# Altium footprint library CON-5.08.PcbLib: 13 footprints
Each footprint in its own frame and in the unit in brackets; x right, y up, seen from the top. Pads: shape width x height; smd on the part's side, far side on the other; paste and mask are expansions set on the pad; w line width, h text height; cw(c..) or ccw(c..) is an arc to the next point about the centre after c.
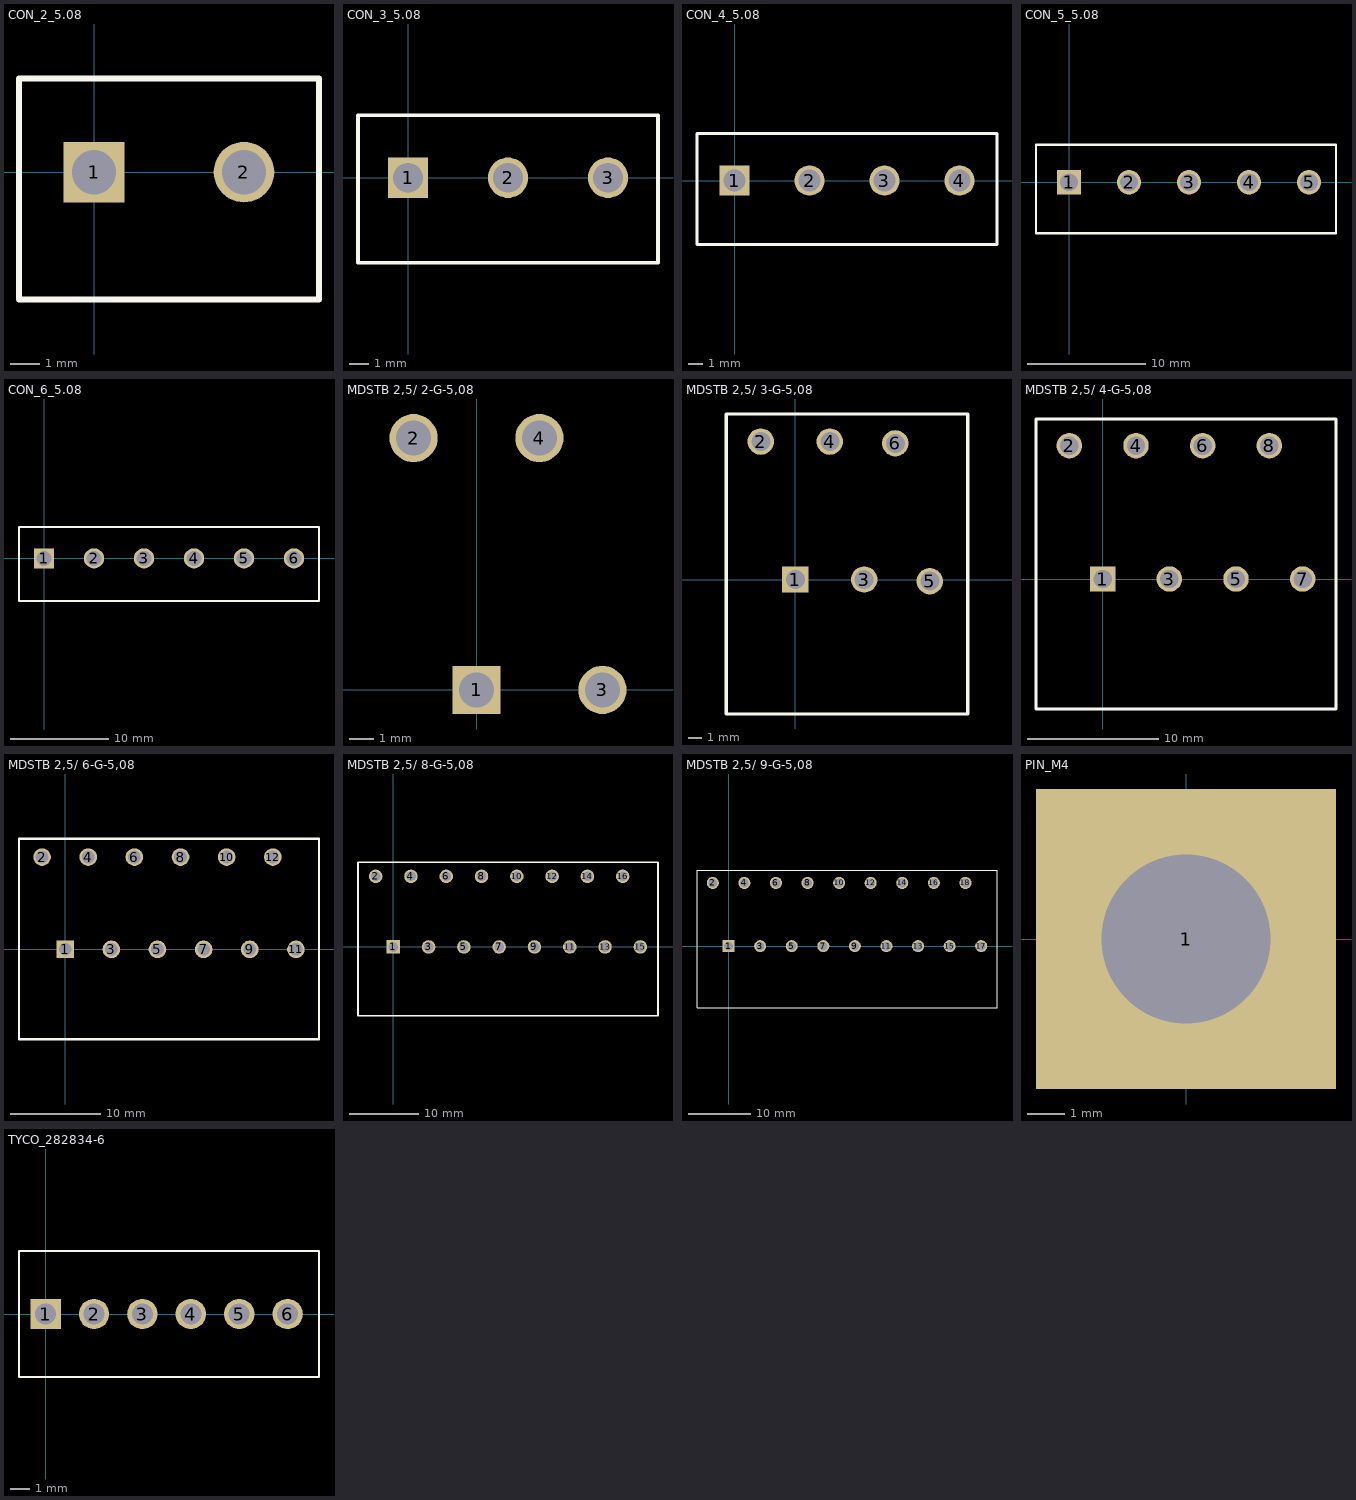
[diagram p0: the footprints below, top view; thin cyan lines are the x and y axes]

## CON_2_5.08 [mm]
pads (2):
  rect 2.05x2.05 hole 1.5: 1(0,0)
  round 2.05 hole 1.5: 2(5.08,0)
Top Overlay:
  lines w0.2: -2.54,-4.318 -2.54,3.175 7.62,3.175 7.62,-4.318 -2.54,-4.318
3D body: height 10, standoff -3.05, extent -2.54,-4.327 7.62,3.173

## CON_3_5.08 [mm]
pads (3):
  rect 2.05x2.05 hole 1.5: 1(0,0)
  round 2.05 hole 1.5: 2(5.08,0) 3(10.16,0)
Top Overlay:
  lines w0.2: -2.54,-4.318 -2.54,3.175 12.7,3.175 12.7,-4.318 -2.54,-4.318
3D body: height 10, standoff -3.05, extent -2.54,-4.327 12.7,3.173

## CON_4_5.08 [mm]
pads (4):
  rect 2.05x2.05 hole 1.5: 1(0,0)
  round 2.05 hole 1.5: 2(5.08,0) 3(10.16,0) 4(15.24,0)
Top Overlay:
  lines w0.2: -2.54,-4.318 -2.54,3.175 7.366,3.175 17.78,3.175 17.78,-4.318 7.366,-4.318 -2.54,-4.318
3D body: height 10, standoff -3.05, extent 7.62,-4.318 17.78,3.182
3D body: height 10, standoff -3.05, extent -2.54,-4.318 7.62,3.182

## CON_5_5.08 [mm]
pads (5):
  rect 2.05x2.05 hole 1.5: 1(0,0)
  round 2.05 hole 1.5: 2(5.08,0) 3(10.16,0) 4(15.24,0) 5(20.32,0)
Top Overlay:
  lines w0.2: -2.794,-4.318 -2.794,3.175 7.366,3.175 22.606,3.175 22.606,-4.318 7.366,-4.318 -2.794,-4.318
3D body: height 10, standoff -3.05, extent 7.62,-4.327 22.86,3.173
3D body: height 10, standoff -3.05, extent -2.54,-4.327 7.62,3.173

## CON_6_5.08 [mm]
pads (6):
  rect 2.05x2.05 hole 1.5: 1(0,0)
  round 2.05 hole 1.5: 2(5.08,0) 3(10.16,0) 4(15.24,0) 5(20.32,0) 6(25.4,0)
Top Overlay:
  lines w0.2: -2.54,-4.318 12.7,-4.318 27.94,-4.318 27.94,3.175 12.7,3.175 -2.54,3.175 -2.54,-4.318
3D body: height 10, standoff -3.05, extent 12.7,-4.327 27.94,3.173
3D body: height 10, standoff -3.05, extent -2.54,-4.327 12.7,3.173

## MDSTB 2,5/ 2-G-5,08 [mm]
pads (4):
  rect 1.94x1.94 hole 1.4: 1(0,0)
  round 1.94 hole 1.4: 2(-2.54,10.16) 3(5.08,0) 4(2.54,10.16)
3D body: height 23.98, standoff -3.02, extent -5.08,-9.907 7.62,12.193

## MDSTB 2,5/ 3-G-5,08 [mm]
pads (6):
  rect 1.94x1.94 hole 1.4: 1(0,0)
  round 1.94 hole 1.4: 2(-2.54,10.16) 3(5.08,0) 4(2.54,10.16) 5(9.906,-0.127) 6(7.366,10.033)
Top Overlay:
  lines w0.254: -5.08,-9.906 -5.08,12.192 12.7,12.192 12.7,-9.906 -5.08,-9.906
3D body: height 23.88, standoff -3.12, extent -5.08,-9.907 12.7,12.193

## MDSTB 2,5/ 4-G-5,08 [mm]
pads (8):
  rect 1.94x1.94 hole 1.4: 1(0,0)
  round 1.94 hole 1.4: 2(-2.54,10.16) 3(5.08,0) 4(2.54,10.16) 5(10.16,0) 6(7.62,10.16) 7(15.24,0) 8(12.7,10.16)
Top Overlay:
  lines w0.254: -5.08,-9.906 17.78,-9.906 17.78,12.192 -5.08,12.192 -5.08,-9.906
3D body: height 23.98, standoff -3.02, extent -5.08,-9.907 17.78,12.193

## MDSTB 2,5/ 6-G-5,08 [mm]
pads (12):
  rect 1.94x1.94 hole 1.4: 1(0,0)
  round 1.94 hole 1.4: 2(-2.54,10.16) 3(5.08,0) 4(2.54,10.16) 5(10.16,0) 6(7.62,10.16) 7(15.24,0) 8(12.7,10.16) 9(20.32,0) 10(17.78,10.16) 11(25.4,0) 12(22.86,10.16)
Top Overlay:
  lines w0.254: -5.08,-9.906 -5.08,12.192 27.94,12.192 27.94,-9.906 -5.08,-9.906
3D body: height 23.88, standoff -3.12, extent -5.08,-9.907 27.94,12.193

## MDSTB 2,5/ 8-G-5,08 [mm]
pads (16):
  rect 1.94x1.94 hole 1.4: 1(0,0)
  round 1.94 hole 1.4: 2(-2.54,10.16) 3(5.08,0) 4(2.54,10.16) 5(10.16,0) 6(7.62,10.16) 7(15.24,0) 8(12.7,10.16) 9(20.32,0) 10(17.78,10.16) 11(25.4,0) 12(22.86,10.16) 13(30.48,0) 14(27.94,10.16) 15(35.56,0) 16(33.02,10.16)
Top Overlay:
  lines w0.254: -5.08,-9.906 38.1,-9.906 38.1,12.192 -5.08,12.192 -5.08,-9.906
3D body: height 24.28, standoff -2.72, extent -5.08,-9.907 38.1,12.193

## MDSTB 2,5/ 9-G-5,08 [mm]
pads (18):
  rect 1.94x1.94 hole 1.4: 1(0,0)
  round 1.94 hole 1.4: 2(-2.54,10.16) 3(5.08,0) 4(2.54,10.16) 5(10.16,0) 6(7.62,10.16) 7(15.24,0) 8(12.7,10.16) 9(20.32,0) 10(17.78,10.16) 11(25.4,0) 12(22.86,10.16) 13(30.48,0) 14(27.94,10.16) 15(35.56,0) 16(33.02,10.16) 17(40.64,0) 18(38.1,10.16)
Top Overlay:
  lines w0.1: -5.08,-9.906 43.18,-9.906 43.18,12.192 -5.08,12.192 -5.08,-9.906
3D body: height 24.28, standoff -2.72, extent -5.08,-9.907 43.18,12.193

## PIN_M4 [mm]
pads (1):
  rect 8x8 hole 4.5: 1(0,0)

## TYCO_282834-6 [mm]
pads (6):
  rect 1.6x1.6 hole 1.1: 1(0,0)
  round 1.6 hole 1.1: 2(2.54,0) 3(5.08,0) 4(7.62,0) 5(10.16,0) 6(12.7,0)
Top Overlay:
  lines w0.1: -1.397,-3.302 14.351,-3.302 14.351,3.302 -1.397,3.302 -1.397,-3.302
3D body: height 10, standoff -3.4, extent -1.397,-3.25 14.303,3.25